# Altium footprint library PcbLib1.PcbLib: 3 footprints
Each footprint in its own frame and in the unit in brackets; x right, y up, seen from the top. Pads: shape width x height; smd on the part's side, far side on the other; paste and mask are expansions set on the pad; w line width, h text height; cw(c..) or ccw(c..) is an arc to the next point about the centre after c.
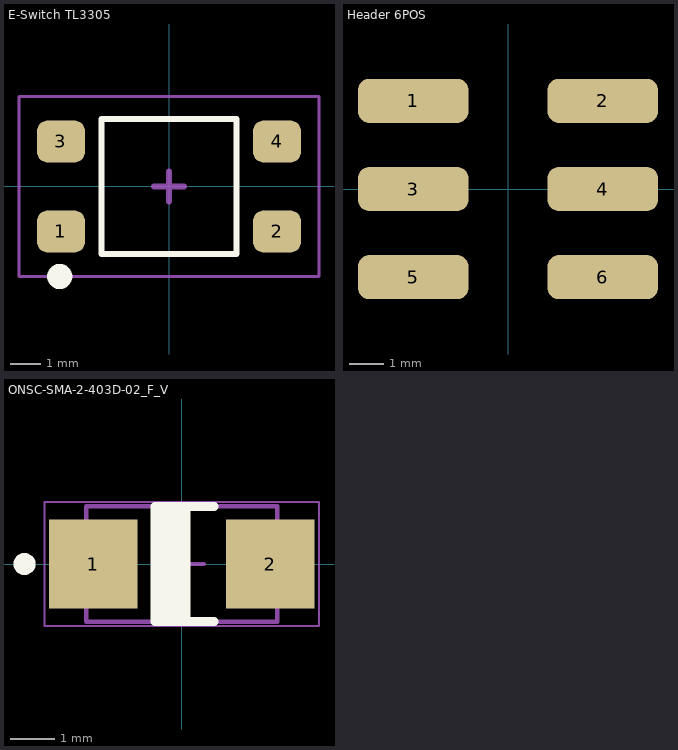
[diagram p0: the footprints below, top view; thin cyan lines are the x and y axes]

## E-Switch TL3305 [mm]
height 3.8
pads (4):
  rrect50% 1.6x1.4 smd: 1(-3.6,-1.5) 2(3.6,-1.5) 3(-3.6,1.5) 4(3.6,1.5)
Top Overlay:
  circle w0.5: c-3.643,-3 r0.169
  lines w0.2: -2.25,-2.25 2.25,-2.25 2.25,2.25 -2.25,2.25 -2.25,-2.25
Top Component Center:
  lines w0.2: -0.5,0 0.5,0 ; 0,-0.5 0,0.5
Top Courtyard (Mech17):
  lines w0.1: -5,-3 -5,3 5,3 5,-3 -5,-3
3D body: height 3.8, standoff 0, extent -1.219,-1.265 1.281,1.235
3D body: height 2.5, standoff 0, extent -2.25,-2.25 2.25,2.25

## Header 6POS [mm]
pads (6):
  rrect50% 3.18x1.27 smd: 1(-2.73,2.54) 2(2.73,2.54) 3(-2.73,0) 4(2.73,0) 5(-2.73,-2.54) 6(2.73,-2.54)
3D body "10129383-906002BLF--3DModel-STEP-533217.STEP": height 11.9, standoff 0.01, extent -3.7,-3.81 3.674,3.81

## ONSC-SMA-2-403D-02_F_V [mm] "Molded, 2-Leads, Body 4.32x2.6mm"
height 2.2
pads (2):
  rect 2x2 smd: 1(-2,0) 2(2,0)
Top Overlay:
  circle w0.25: c-3.55,0 r0.125
  rectangle: -0.578,-1.3 0.2,1.3
  lines w0.2: 0.736,-1.3 -0.6,-1.3 -0.6,1.3 ; 0.736,1.3 -0.6,1.3 ; -0.6,1.3 -0.6,1.3
Top 3D Body:
  lines w0.1: -2.16,-1.3 2.16,-1.3 2.16,1.3 -2.16,1.3 -2.16,-1.3
Top Component Center:
  lines w0.05: -3.1,-1.4 -3.1,1.4 3.1,1.4 3.1,-1.4 -3.1,-1.4
  lines w0.1: -0.5,0 0.5,0 ; 0,-0.5 0,0.5
3D body: height 2.2, standoff 0.05, extent -2.16,-1.3 2.16,1.3